# Altium schematic symbol library Drossel.SchLib: 1 symbol
Pins are listed as number, name and electrical type; pins without a type are passive.

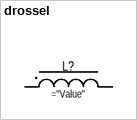
[diagram p0: symbol drossel]

## drossel
designator L?
Value: ="Value"
pins: 1, 2